# EAGLE library part CONN_MICROSD (library UpBoard B)
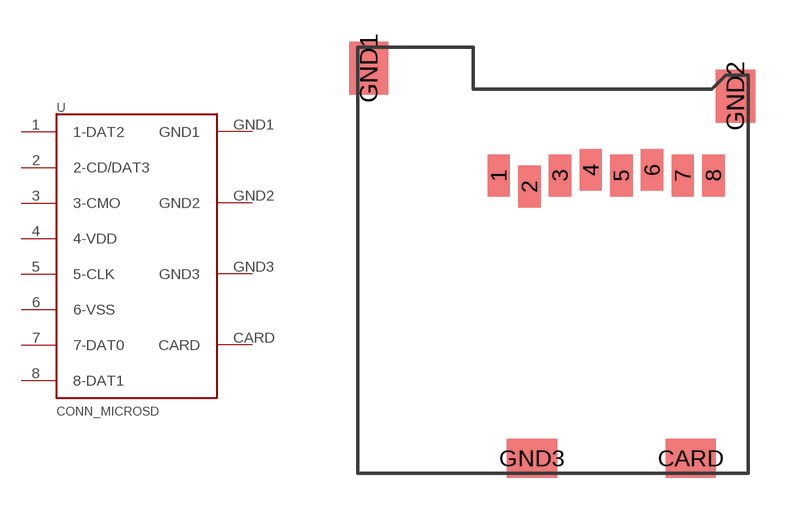
[diagram p2: symbol with the pads of CONN_MICROSD; footprint CONN_MICROSD]

Designator prefix -

## CONN_MICROSD  [CONN_MICROSD]
1  1-DAT2
2  2-CD/DAT3
3  3-CMO
4  4-VDD
5  5-CLK
6  6-VSS
7  7-DAT0
8  8-DAT1
CARD  CARD
GND1  GND1
GND2  GND2
GND3  GND3

## Footprint CONN_MICROSD (pad centres in mm)
smd 0.8 x 1.5: 1 5.36,10.7; 2 6.46,10.3; 3 7.56,10.7; 4 8.66,10.9; 5 9.76,10.7; 6 10.86,10.9; 7 11.96,10.7; 8 13.06,10.7
smd 1.8 x 1.4: CARD 12.25,0.55; GND3 6.55,0.55
smd 1.4 x 1.9: GND1 0.7,14.55; GND2 13.85,13.55